# EAGLE library part 10DOF-GY91 (library macrocketry_2019)
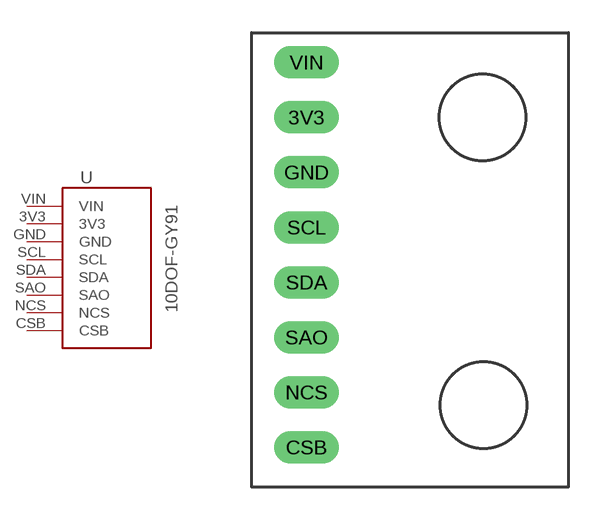
[diagram p2: symbol with the pads of 10DOF-GY-91; footprint 10DOF-GY-91]

Designator prefix -

## 10DOF-GY91  [10DOF-GY-91]
3V3  3V3
CSB  CSB
GND  GND
NCS  NCS
SAO  SAO
SCL  SCL
SDA  SDA
VIN  VIN

## Footprint 10DOF-GY-91 (pad centres in mm)
drill 1 pad 1.422 long: 3V3 -3.81,5.08; CSB -3.81,-10.16; GND -3.81,2.54; NCS -3.81,-7.62; SAO -3.81,-5.08; SCL -3.81,0; SDA -3.81,-2.54; VIN -3.81,7.62